# EAGLE library part OPAMP-MAX4477 (library openct)
Maxim MAX4477 Low-noise, low-distortion dual op amp
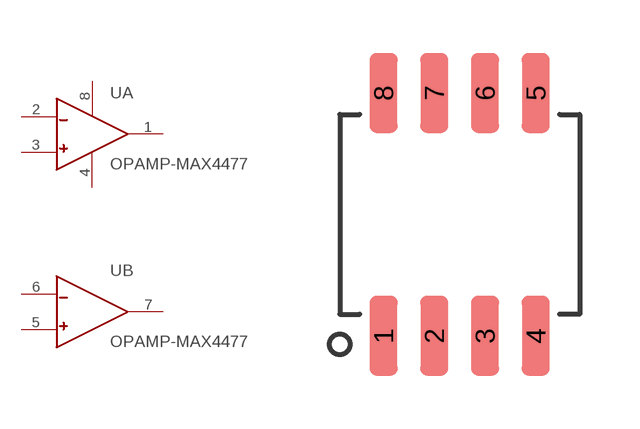
[diagram p2: symbol with the pads of SOIC-8; footprint SOIC-8]

Designator prefix U; gates A=OPAMP B=OPAMP-NOPOWER

## OPAMP-MAX4477  [SOIC-8]
1  A:OUT
2  A:-
3  A:+
4  A:V-
5  B:+
6  B:-
7  B:OUT
8  A:V+

## Footprint SOIC-8 (pad centres in mm)
smd 0.7 x 2: 1 -1.905,-3.04; 2 -0.635,-3.04; 3 0.635,-3.04; 4 1.905,-3.04; 5 1.905,3.04; 6 0.635,3.04; 7 -0.635,3.04; 8 -1.905,3.04